# Altium footprint library SG_Harness_Connectors_on_wires.PcbLib: 5 footprints
Each footprint in its own frame and in the unit in brackets; x right, y up, seen from the top. Pads: shape width x height; smd on the part's side, far side on the other; paste and mask are expansions set on the pad; w line width, h text height; cw(c..) or ccw(c..) is an arc to the next point about the centre after c.

## 47054-1000 [mm]
3D body "0470541000.stp": height 5.82, standoff 0, extent -4.765,-8.128 6.035,4.572

## MF2x2-F [mm]
3D body "39-01-3042.stp": height 8.9, standoff -10.7, extent -5.8,-5.927 5.8,8.473

## MF2x4-F [mm]
3D body "39-01-2085.stp": height 8.9, standoff -10.7, extent -10.143,-5.8 7.857,8.6

## MF2x5-F [mm]
3D body "39-01-2105.stp": height 8.9, standoff -10.7, extent -10.465,-6.562 11.735,7.838

## XT60 [mm]
3D body "XB-TX60U-F.stp": height 13.65, standoff -3.6, extent -6.376,-5.189 9.424,3.411